# EAGLE library part ADS7128 (library ADS7128)
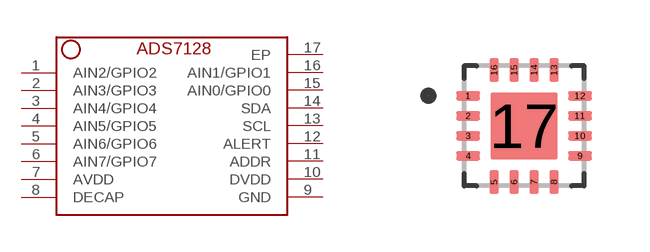
[diagram p0: symbol with the pads of QFN50P300X300X80-17N; footprint QFN50P300X300X80-17N]

Designator prefix -

## ADS7128  [QFN50P300X300X80-17N]
1  AIN2/GPIO2
2  AIN3/GPIO3
3  AIN4/GPIO4
4  AIN5/GPIO5
5  AIN6/GPIO6
6  AIN7/GPIO7
7  AVDD
8  DECAP
9  GND
10  DVDD
11  ADDR
12  ALERT
13  SCL
14  SDA
15  AIN0/GPIO0
16  AIN1/GPIO1
17  EP

## Footprint QFN50P300X300X80-17N (pad centres in mm)
smd 0.6 x 0.24: 1 -1.4,0.75; 2 -1.4,0.25; 3 -1.4,-0.25; 4 -1.4,-0.75; 9 1.4,-0.75; 10 1.4,-0.25; 11 1.4,0.25; 12 1.4,0.75
smd 0.24 x 0.6: 5 -0.75,-1.4; 6 -0.25,-1.4; 7 0.25,-1.4; 8 0.75,-1.4; 13 0.75,1.4; 14 0.25,1.4; 15 -0.25,1.4; 16 -0.75,1.4
smd 1.68 x 1.68: 17 0,0